# Altium schematic symbol library VLS3012HBX-2R2M.SchLib: 1 symbol
Pins are listed as number, name and electrical type; pins without a type are passive.

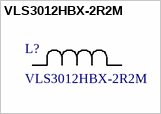
[diagram p0: symbol VLS3012HBX-2R2M]

## VLS3012HBX-2R2M
designator L?
Description; Manufacturer_Name: TDK; Copyright: Copyright (C) 2025 Ultra Librarian. All rights reserved.; Manufacturer_Part_Number: VLS3012HBX-2R2M
footprint IND_VLS3012HBX_TDK
pins: 1, 2